# Altium schematic symbol library ZXTR2005ZQ.Schlib: 1 symbol
Pins are listed as number, name and electrical type; pins without a type are passive.

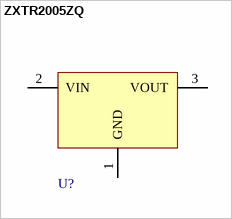
[diagram p0: symbol ZXTR2005ZQ]

## ZXTR2005ZQ
designator U?
100V INPUT, 5V 30mA REGULATOR TRANSISTOR
pins: 1 GND (power), 2 VIN (power), 3 VOUT (power)